# Altium schematic symbol library AI-1223-TWT-5V-5-R.SchLib: 2 symbols
Pins are listed as number, name and electrical type; pins without a type are passive.

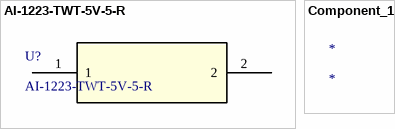
[diagram p0: symbols AI-1223-TWT-5V-5-R to Component_1]

## AI-1223-TWT-5V-5-R
designator U?
No Description Available; Mfr_Name: PUI Audio; Copyright: Copyright (C) 2024 Ultra Librarian. All rights reserved.; Manufacturer_Part_Number: AI-1223-TWT-5V-5-R; RefDes: RefDes; Type: DEV
footprint AI-1223-TWT-5V-5-R_PUI
pins: 1, 2

## Component_1
designator *